# EAGLE library part JTAG-AVR (library kblom)
Atmel AVR JTAG source (AVR32) <http://www.atmel.com/dyn/resources/prod_documents/doc32002.pdf?source=cms> con
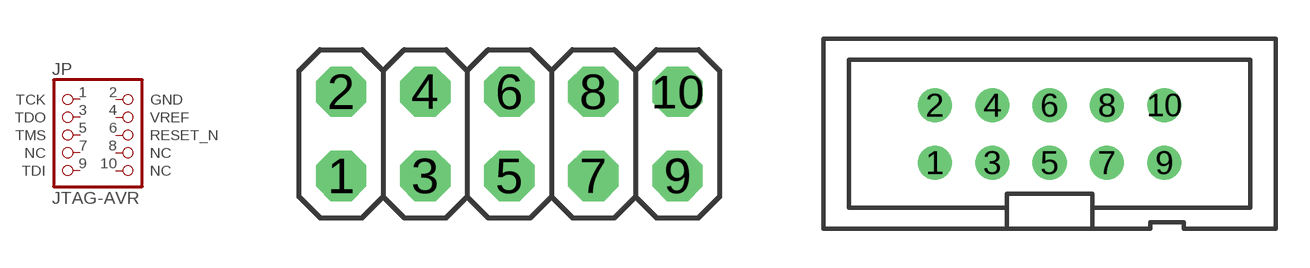
[diagram p9: symbol with the pads of 2X05; footprints 2X05, PAK100/2500-10]

Designator prefix JP

## JTAG-AVR-PINHD  [2X05]
1  TCK  in
2  GND  pas
3  TDO  out
4  VREF  out
5  TMS  in
6  RESET_N  in
7  NC  nc
8  NC  nc
9  TDI  in
10  NC  nc

## JTAG-AVR-IDC  [PAK100/2500-10]
Pads as for 2X05

## Footprint 2X05 (pad centres in mm)
PIN HEADER
drill 1.016 octagon: 1 -5.08,-1.27; 2 -5.08,1.27; 3 -2.54,-1.27; 4 -2.54,1.27; 5 0,-1.27; 6 0,1.27; 7 2.54,-1.27; 8 2.54,1.27; 9 5.08,-1.27; 10 5.08,1.27

## Footprint PAK100/2500-10 (pad centres in mm)
3M (TM) Pak 100 4-Wall Header Straight Source: 3M
drill 1 pad 1.422 round: 1 -5.08,-1.27; 2 -5.08,1.27; 3 -2.54,-1.27; 4 -2.54,1.27; 5 0,-1.27; 6 0,1.27; 7 2.54,-1.27; 8 2.54,1.27; 9 5.08,-1.27; 10 5.08,1.27